# Altium schematic symbol library cube_schLib.SchLib: 4 symbols
Pins are listed as number, name and electrical type; pins without a type are passive.

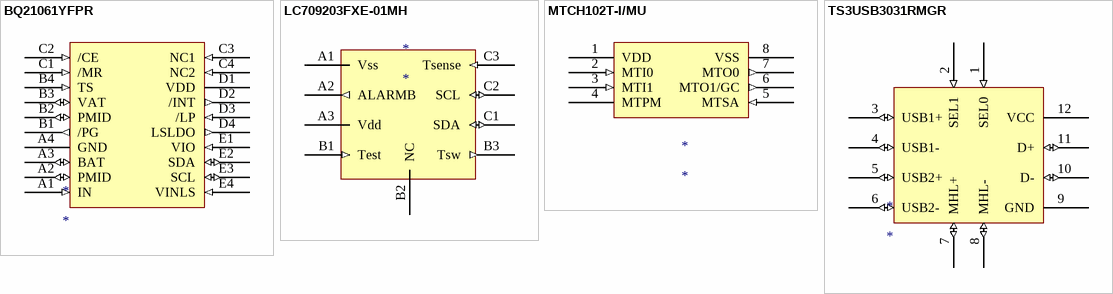
[diagram p0: symbols BQ21061YFPR to TS3USB3031RMGR]

## BQ21061YFPR
designator *
Manufacturer: Texas Instruments; Manufacturer Part Number: BQ21061YFPR; Supplier 1: Mouser; Stock 1: 4336; Pricing 1: 1=1.83, 10=1.55, 100=1.24, 250=1.09, 500=1.06, 1000=0.837, 3000=0.806, 6000=0.775, 9000=0.763 (USD); Supplier Part Number 1: 595-BQ21061YFPR
footprint DSBGA-20
pins: A1 IN (in), A2 PMID (io), A3 BAT (io), A4 GND (power), B1 /PG (out), B2 PMID (io), B3 VAT (io), B4 TS (in), C1 /MR (in), C2 /CE (in), C3 NC1 (in), C4 NC2 (in), D1 VDD (power), D2 /INT (out), D3 /LP (in), D4 LSLDO (out), E1 VIO (in), E2 SDA (io), E3 SCL (io), E4 VINLS (in)

## LC709203FXE-01MH
designator *
Battery Management FUEL GAUGE; Manufacturer: ON Semiconductor; Manufacturer Part Number: LC709203FXE-01MH; Function: Battery Monitor; Battery Chemistry: Lithium-Ion; Number of Cells: 1; Interface: I²C; Drawing Number: 488; 567JH; ; 9; Supplier 1: Mouser; Stock 1: 708; Pricing 1: 1=1.58, 10=1.34, 100=0.912, 500=0.863, 1000=0.671, 2500=0.651, 5000=0.614, 10000=0.595, 25000=0.582 (USD); Category: Integrated Circuits (ICs); Family: PMIC - Battery Management; Series: -; Packaging: Tape & Reel (TR); Fault Protection: -; Operating Temperature: -40°C ~ 85°C (TA); Package / Case: 9-UFBGA; Supplier Device Package: 9-WLCSP (1.60x1.76); ComponentLink1URL: http://www.onsemi.com/pub/Collateral/ENA2237-D.PDF?src-supplier=Avnet; ComponentLink1Description: http://www.onsemi.com/pub/Collateral/ENA2237-D.PDF?src-supplier=Avnet; ComponentLink2URL: http://www.farnell.com/datasheets/2236954.pdf?src-supplier=Farnell; ComponentLink2Description: http://www.farnell.com/datasheets/2236954.pdf?src-supplier=Farnell; ComponentLink3URL: http://www.onsemi.com/pub/Collateral/LC709203F-D.PDF?src-supplier=Digi-Key; ComponentLink3Description: http://www.onsemi.com/pub/Collateral/LC709203F-D.PDF?src-supplier=Digi-Key; ComponentLink4URL: http://www.farnell.com/datasheets/2236954.pdf?src-supplier=Newark; ComponentLink4Description: http://www.farnell.com/datasheets/2236954.pdf?src-supplier=Newark; ComponentLink5URL: http://www.onsemi.com/pub/Collateral/ENA2237-D.PDF?src-supplier=Avnet+Asia; ComponentLink5Description: http://www.onsemi.com/pub/Collateral/ENA2237-D.PDF?src-supplier=Avnet+Asia; ComponentLink6URL: http://www.mouser.com/ds/2/308/ENA2237-D-321387.pdf?src-supplier=Mouser; ComponentLink6Description: http://www.mouser.com/ds/2/308/ENA2237-D-321387.pdf?src-supplier=Mouser; Supplier Part Number 1: 863-LC709203FXE-01MH
footprint WLCSP9 (3X3)
pins: A1 Vss, A2 ALARMB (out), A3 Vdd, B1 Test (in), B2 NC, B3 Tsw (out), C1 SDA (io), C2 SCL (io), C3 Tsense (in)

## MTCH102T-I/MU
designator *
2 channels Proximity/Touch controller; Manufacturer: Microchip; Manufacturer Part Number: MTCH102T-I/MU; Categories: Integrated Circuits (ICs); Proximity Detection: Yes; Number of Inputs: Up to 2; Interface: Open Drain; Voltage - Supply: 2.05 V ~ 3.6 V; Current - Supply: 80mA; Supplier 1: Mouser; Stock 1: 4821; Pricing 1: 1=0.73, 10=0.73, 25=0.67, 100=0.61, 250=0.61, 500=0.61 (USD); Series: -; Packaging: Digi-Reel®; Part Status: Active; Type: Buttons; LED Driver Channels: Up to 2; Resolution: -; Operating Temperature: -40°C ~ 85°C; Package / Case: 8-UDFN Exposed Pad; Supplier Device Package: 8-UDFN (3x3); ComponentLink1URL: http://www.microchip.com/mymicrochip/filehandler.aspx?ddocname=en574086&src-supplier=Digi-Key; ComponentLink1Description: http://www.microchip.com/mymicrochip/filehandler.aspx?ddocname=en574086&src-supplier=Digi-Key; ComponentLink2URL: http://www.microchip.com/mymicrochip/filehandler.aspx?ddocname=en573074&src-supplier=Digi-Key; ComponentLink2Description: http://www.microchip.com/mymicrochip/filehandler.aspx?ddocname=en573074&src-supplier=Digi-Key; ComponentLink3URL: http://ww1.microchip.com/downloads/en/DeviceDoc/40001793A.pdf?src-supplier=Avnet; ComponentLink3Description: http://ww1.microchip.com/downloads/en/DeviceDoc/40001793A.pdf?src-supplier=Avnet; Supplier Part Number 1: 579-MTCH102T-I/MU
footprint UDFN-8
pins: 1 VDD (power), 2 MTI0 (in), 3 MTI1 (in), 4 MTPM, 5 MTSA (in), 6 MTO1/GC (out), 7 MTO0 (out), 8 VSS

## TS3USB3031RMGR
designator *
IC USB SWITCH DUAL 1X2 12WQFN; Manufacturer: Texas Instruments; Manufacturer Part Number: TS3USB3031RMGR; Circuit: 1 x DP3T; On-State Resistance: 7 Ohm; Voltage Supply Source: Single Supply; Voltage - Supply, Single/Dual (±): 2.5 V ~ 4.3 V; Current - Supply: 28µA; Supplier 1: Mouser; Stock 1: 16923; Pricing 1: 1=1.16, 10=0.98, 100=0.753, 250=0.666, 500=0.63, 1000=0.49 (USD); Standard Package: 3,000; Category: Integrated Circuits (ICs); Family: Interface - Analog Switches, Multiplexers, Demultiplexers; Packaging: Tape & Reel (TR); Function: Switch; Operating Temperature: -40°C ~ 85°C; Mounting Type: Surface Mount; Package / Case: 12-WFQFN; Supplier Device Package: 12-WQFN (1.8x1.8); ComponentLink1URL: http://www.ti.com/lit/ds/symlink/ts3usb3031.pdf?src-supplier=Digi-Key; ComponentLink1Description: http://www.ti.com/lit/ds/symlink/ts3usb3031.pdf?src-supplier=Digi-Key; Supplier Part Number 1: 595-TS3USB3031RMGR
footprint PWQFN-N12
pins: 1 SEL0 (in), 2 SEL1 (in), 3 USB1+ (io), 4 USB1- (io), 5 USB2+ (io), 6 USB2- (io), 7 MHL+ (io), 8 MHL- (io), 9 GND, 10 D- (io), 11 D+ (io), 12 VCC (power)